# Altium integrated library SMD-LED-YELLOW-WHITE_0603_.IntLib: 1 symbol
Pins are listed as number, name and electrical type; pins without a type are passive.

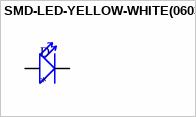
[diagram p0: symbol SMD-LED-YELLOW-WHITE(0603)]

## SMD-LED-YELLOW-WHITE(0603)
designator D
SMD LED Yellow-White; MF: Chengguangxing; MP: ADL-0603W; SnapEDA_Link: https://www.snapeda.com/parts/ADL-0603W/Chengguangxing/view-part/106378/?ref=snap; Availability: Unavailable; Value: *; Price: None; Package: None
footprint LED-0603
pins: NEG, POS